# Altium schematic symbol library JST_XH254.SchLib: 6 symbols
Pins are listed as number, name and electrical type; pins without a type are passive.

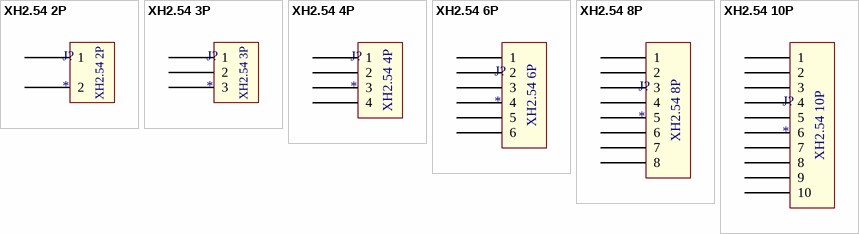
[diagram p0: symbols XH2.54 2P to XH2.54 10P]

## XH2.54 2P
designator J?
footprint JST_XH254_2P_TH
footprint JST_XH254_2P_TH_RH
pins: 1, 2

## XH2.54 3P
designator J?
footprint JST_XH254_3P_TH
footprint JST_XH254_3P_TH_RH
pins: 1, 2, 3

## XH2.54 4P
designator J?
footprint JST_XH254_4P_TH
footprint JST_XH254_4P_TH_RH
pins: 1, 2, 3, 4

## XH2.54 6P
designator J?
footprint JST_XH254_6P_TH
footprint JST_XH254_6P_TH_RH
pins: 1, 2, 3, 4, 5, 6

## XH2.54 8P
designator J?
footprint JST_XH254_8P_TH
footprint JST_XH254_8P_TH_RH
pins: 1, 2, 3, 4, 5, 6, 7, 8

## XH2.54 10P
designator J?
footprint JST_XH254_10P_TH
footprint JST_XH254_10P_TH_RH
pins: 1, 2, 3, 4, 5, 6, 7, 8, 9, 10